# Altium footprint library USB_micro_b_CONN_10118193-0001LF_AMP.PcbLib: 1 footprints
Each footprint in its own frame and in the unit in brackets; x right, y up, seen from the top. Pads: shape width x height; smd on the part's side, far side on the other; paste and mask are expansions set on the pad; w line width, h text height; cw(c..) or ccw(c..) is an arc to the next point about the centre after c.
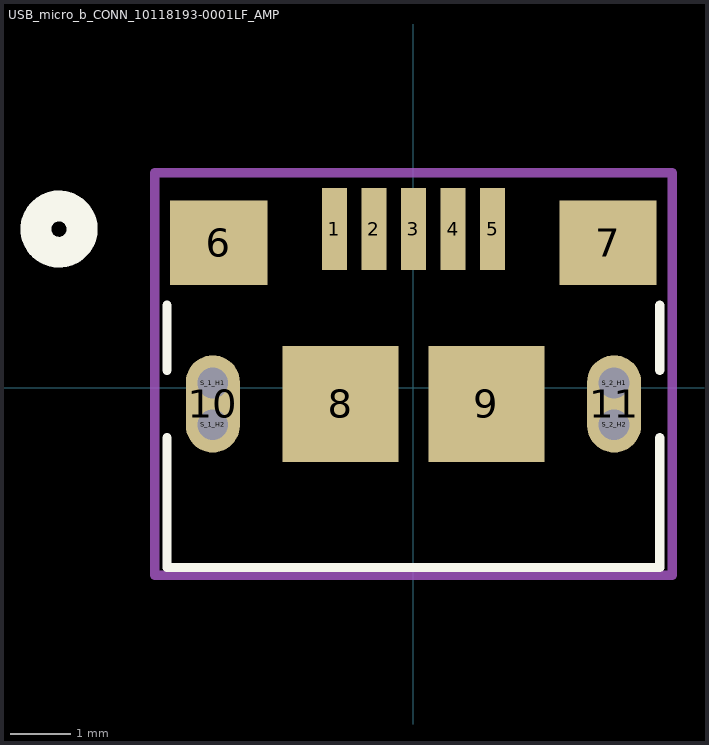
[diagram p0: the footprint, top view; thin cyan lines are the x and y axes]

## USB_micro_b_CONN_10118193-0001LF_AMP [mil]
pads (15):
  rect 16x53 smd paste+0 mask+0: 1(-51.18,102.64) 2(-25.59,102.64) 3(0,102.64) 4(25.59,102.64) 5(51.18,102.64)
  rect 63x55 smd paste-31.5 mask-31.5: 6(-125.98,93.78) 7(125.98,93.78)
  rect 75x75 smd paste-37.5 mask-37.5: 8(-47.24,-10.55) 9(47.24,-10.55)
  oval 35x63 smd paste-31.5 mask-31.5: 10(-129.92,-10.55) 11(129.92,-10.55)
  round 20 / inner round 60 / far side round 20 hole 20 unplated paste-10 mask-10: S_1_H1(-129.92,2.95) S_1_H2(-129.92,-24.05) S_2_H1(129.92,2.95) S_2_H2(129.92,-24.05)
Top Overlay:
  circle w20: c-229.5,102.64 r15
  lines w6: -159.5,-32.39 -159.5,-116.5 159.5,-116.5 159.5,-32.39 ; -159.5,11.29 -159.5,53.34 ; 159.5,11.29 159.5,53.34
Bottom Overlay:
  circle w20: c-229.5,102.64 r15
Mechanical 15:
  lines w6: -167.48,-121.5 167.48,-121.5 167.48,139.14 -167.48,139.14 -167.48,-121.5
Multi-Layer:
  lines w20: -129.92,-24.05 -129.92,2.95 ; 129.92,-24.05 129.92,2.95